# Altium integrated library LDR.IntLib: 1 symbol
Pins are listed as number, name and electrical type; pins without a type are passive.

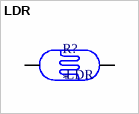
[diagram p0: symbol LDR]

## LDR
designator R?
20MM LDR 50K-100K OHM; MF: Fairway Electronics; SnapEDA_Link: https://www.snapeda.com/parts/LDR/Applied+Avionics/view-part/?ref=snap; Package: None; Value: *; MP: LDR; Check_prices: https://www.snapeda.com/parts/LDR/Applied+Avionics/view-part/?ref=eda
footprint LDR
pins: 1 P$1 (io), 2 P$2 (io)